# Altium footprint library UVY1H102MHD.PcbLib: 1 footprints
Each footprint in its own frame and in the unit in brackets; x right, y up, seen from the top. Pads: shape width x height; smd on the part's side, far side on the other; paste and mask are expansions set on the pad; w line width, h text height; cw(c..) or ccw(c..) is an arc to the next point about the centre after c.
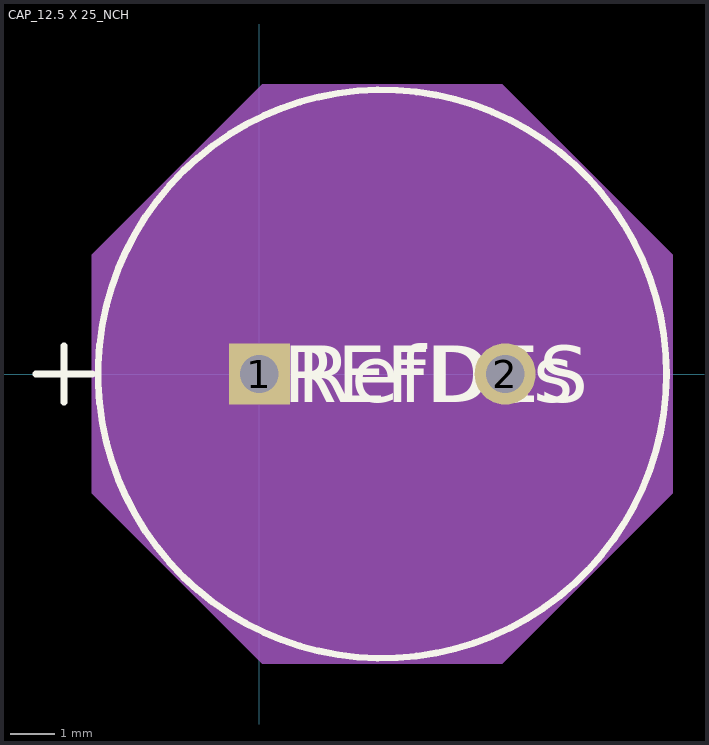
[diagram p0: the footprint, top view; thin cyan lines are the x and y axes]

## CAP_12.5 X 25_NCH [mil]
pads (2):
  rect 54x54 / inner round 60 / far side rect 54x54 hole 34 paste-27 mask+0: 1(0,0)
  round 54 / inner round 60 / far side round 54 hole 34 paste-27 mask+0: 2(217,0)
Top Overlay:
  circle w6: c108.5,0 r251
  lines w6: -197.5,0 -147.5,0 ; -172.5,-25 -172.5,25
  text "RefDes" at 33.5,-25 h50
  text "REFDES" at 21,-25 h50
Mechanical 13:
  circle w0: c108.5,0 r246
  lines w1: -197.5,0 -147.5,0 ; -172.5,-25 -172.5,25
  text "RefDes2" at 21,-25 h50
Mechanical 15:
  region: -147.5,105.41 3.09,256 213.91,256 364.5,105.41 364.5,-105.41 213.91,-256 3.09,-256 -147.5,-105.41
  lines w1: -147.5,-105.41 3.09,-256 213.91,-256 364.5,-105.41 364.5,105.41 213.91,256 3.09,256 -147.5,105.41 -147.5,-105.41
3D body "CAP_125X25_NCH.step": height 984.61, standoff -172.01, extent -137.48,-245.43 355.37,245.43